# Altium schematic symbol library Harwin Spring Contacts.SchLib: 1 symbol
Pins are listed as number, name and electrical type; pins without a type are passive.

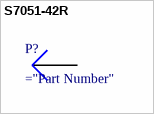
[diagram p0: symbol S7051-42R]

## S7051-42R
designator P?
pins: 1 ="part number"